# EAGLE library part ADS1X15_ADS1X15 (library motorized_potentiometer)
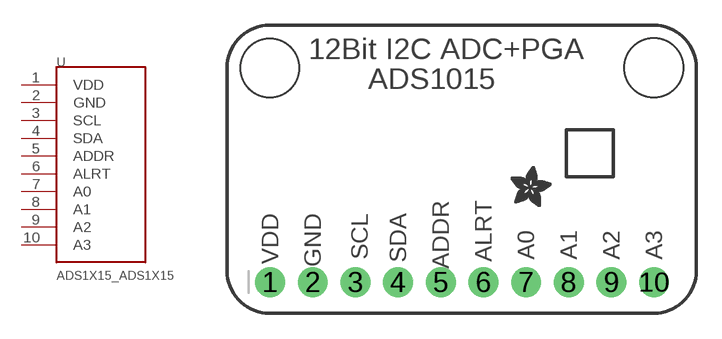
[diagram p0: symbol with the pads of ADS1X15_ADS1X15; footprint ADS1X15_ADS1X15]

Designator prefix -

## ADS1X15_ADS1X15  [ADS1X15_ADS1X15]
1  VDD
2  GND
3  SCL
4  SDA
5  ADDR
6  ALRT
7  A0
8  A1
9  A2
10  A3

## Footprint ADS1X15_ADS1X15 (pad centres in mm)
drill 1 pad 1.778: 1 -10.77,-7.64; 2 -8.23,-7.64; 3 -5.69,-7.64; 4 -3.15,-7.64; 5 -0.61,-7.64; 6 1.93,-7.64; 7 4.47,-7.64; 8 7.01,-7.64; 9 9.55,-7.64; 10 12.09,-7.64